# Altium footprint library PcbLib3.PcbLib: 35 footprints (part 3 of 3)
Each footprint in its own frame and in the unit in brackets; x right, y up, seen from the top. Pads: shape width x height; smd on the part's side, far side on the other; paste and mask are expansions set on the pad; w line width, h text height; cw(c..) or ccw(c..) is an arc to the next point about the centre after c.
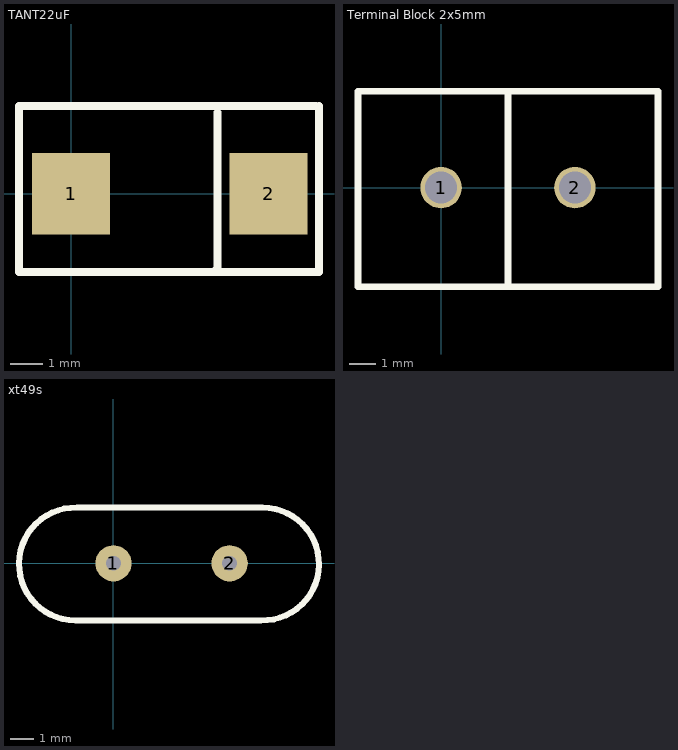
[diagram p2: the footprints below, top view; thin cyan lines are the x and y axes]

## TANT22uF [mm]
pads (2):
  rect 2.4x2.5 smd: 1(0,0) 2(6.07,0)
Top Overlay:
  lines w0.254: 4.4,-2.4 4.5,-2.3 4.5,2.5 ; 7.52,2.7 -1.6,2.7 -1.6,-2.4 7.62,-2.4 7.62,2.7

## Terminal Block 2x5mm [mm]
pads (2):
  round 1.55 hole 1.2: 1(0,0) 2(5,0)
Top Overlay:
  lines w0.254: 2.5,-3.7 2.5,3.6 ; -3.1,-3.7 -3.1,3.6 8.1,3.6 8.1,0.875 8.1,-0.975 8.1,-3.7 -3.1,-3.7

## xt49s [mil] "quartz"
height 196.85
pads (2):
  round 60 hole 24.41: 1(0,0) 2(192.13,0)
Top Overlay:
  lines w10: 246.44,92.14 -60.45,92.14 ccw(c-63.01,-1.16) -62.99,-94.49 244.09,-94.49 ccw(c246.66,-1.19) 246.64,92.14